# EAGLE library part LM2577S (library MiiLib)
STEP-DOWN VOLTAGE REGULATOR
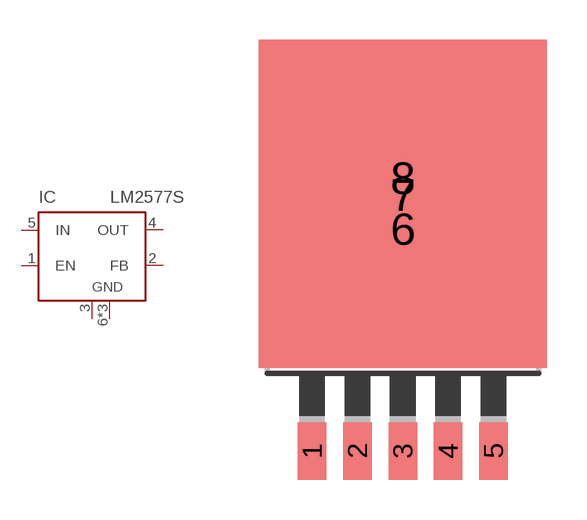
[diagram p6: symbol with the pads of TO263-5; footprint TO263-5]

Designator prefix IC

## LM2577S  [TO263-5]
1  EN  in
2  FB  in
3  GND  pwr
4  OUT  out
5  IN  in
6  GND  pwr
7  GND  pwr
8  GND  pwr

## Footprint TO263-5 (pad centres in mm)
TO-263
smd 1.067 x 2.159: 1 -3.404,-5.791; 2 -1.702,-5.791; 3 0,-5.791; 4 1.702,-5.791; 5 3.404,-5.791
smd 10.8 x 10.41: 6 0,2.54; 7 0,3.81; 8 0,4.445